# EAGLE library part SST26WF080BT-104I/NP (library circuit_tree)
IC
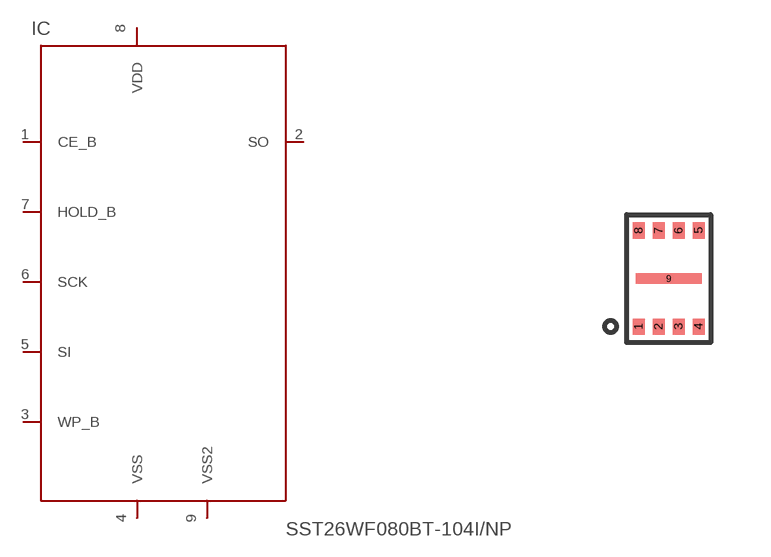
[diagram p8: symbol with the pads of USON-8; footprint USON-8]

Designator prefix IC

## SST26WF080BT-104I/NP  [USON-8]
1  CE_B  pas
2  SO  pas
3  WP_B  pas
4  VSS  pas
5  SI  pas
6  SCK  pas
7  HOLD_B  pas
8  VDD  pas
9  VSS2  pas

## Footprint USON-8 (pad centres in mm)
smd 0.3 x 0.4: 1 0,0; 2 0.5,0; 3 1,0; 4 1.5,0; 5 1.5,2.4; 6 1,2.4; 7 0.5,2.4; 8 0,2.4
smd 1.65 x 0.25: 9 0.75,1.2